# Altium footprint library User_lfy.PcbLib: 18 footprints (part 2 of 2)
Each footprint in its own frame and in the unit in brackets; x right, y up, seen from the top. Pads: shape width x height; smd on the part's side, far side on the other; paste and mask are expansions set on the pad; w line width, h text height; cw(c..) or ccw(c..) is an arc to the next point about the centre after c.
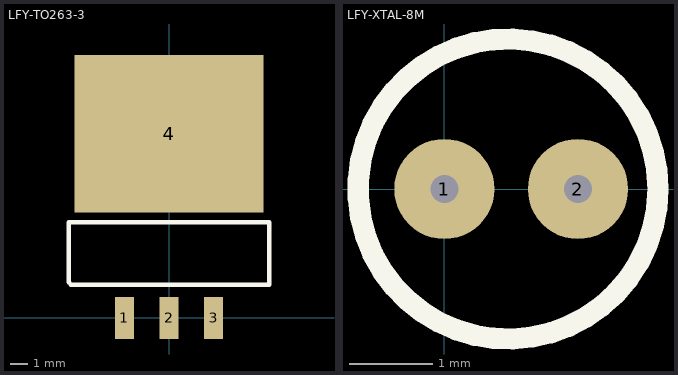
[diagram p1: the footprints below, top view; thin cyan lines are the x and y axes]

## LFY-TO263-3 [mm]
pads (4):
  rect 1.07x2.4 smd: 1(-2.54,0) 2(0,0) 3(2.54,0)
  rect 10.8x9 smd: 4(0,10.5)
Top Overlay:
  lines w0.254: -5.715,2.032 -5.588,1.905 -5.207,1.905 -4.953,1.905 5.715,1.905 5.715,5.461 -4.953,5.461 -5.715,5.461 -5.715,2.032

## LFY-XTAL-8M [mm]
pads (2):
  round 1.2 hole 0.335: 1(0,0) 2(1.6,0)
Top Overlay:
  circle w0.254: c0.762,0 r1.796